# Altium footprint library 7499711421.PcbLib: 1 footprints
Each footprint in its own frame and in the unit in brackets; x right, y up, seen from the top. Pads: shape width x height; smd on the part's side, far side on the other; paste and mask are expansions set on the pad; w line width, h text height; cw(c..) or ccw(c..) is an arc to the next point about the centre after c.
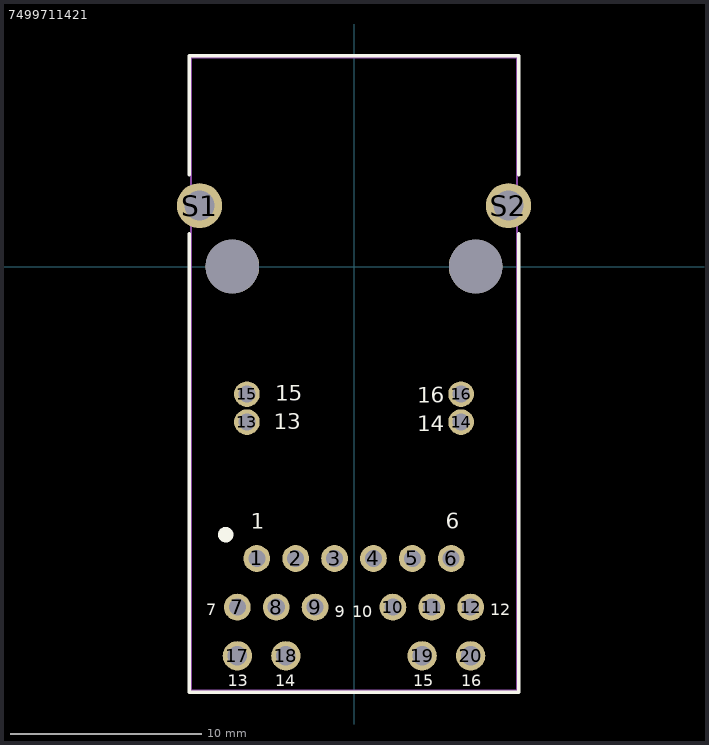
[diagram p0: the footprint, top view; thin cyan lines are the x and y axes]

## 7499711421 [mm]
pads (24):
  round 1.398 hole 0.89: 1(-5.075,-15.24) 2(-3.045,-15.24) 3(-1.015,-15.24) 4(1.015,-15.24) 5(3.045,-15.24) 6(5.075,-15.24) 7(-6.09,-17.78) 8(-4.06,-17.78) 9(-2.03,-17.78) 10(2.03,-17.78) 11(4.06,-17.78) 12(6.09,-17.78)
  round 1.335 hole 0.89: 13(-5.59,-8.12) 14(5.59,-8.12) 15(-5.59,-6.66) 16(5.59,-6.66)
  round 1.53 hole 1.02: 17(-6.09,-20.32) 18(-3.555,-20.32) 19(3.555,-20.32) 20(6.09,-20.32)
  round 2.355 hole 1.57: S1(-8.065,3.18) S2(8.065,3.18)
  round 2.8 hole 2.8 unplated: ""(-6.35,0) ""(6.35,0)
Top Overlay:
  circle w0.4: c-6.7,-14 r0.2
  lines w0.2: -8.6,1.7 -8.6,-22.22 8.6,-22.22 8.6,1.7 ; -8.6,4.8 -8.6,11 8.6,11 8.6,4.8
  text "14" at 3.3,-8.6 h0.81
  text "16" at 3.3,-7.1 h0.81
  text "13" at -4.2,-8.5 h0.81
  text "15" at -4.1,-7 h0.81
  text "15" at 3.1,-21.9 h0.61
  text "16" at 5.6,-21.9 h0.61
  text "13" at -6.6,-21.9 h0.61
  text "14" at -4.1,-21.9 h0.61
  text "12" at 7.1,-18.2 h0.61
  text "10" at -0.1,-18.3 h0.61
  text "9" at -1,-18.3 h0.61
  text "7" at -7.7,-18.2 h0.61
  text "1" at -5.4,-13.7 h0.81
  text "6" at 4.8,-13.7 h0.81
Mechanical 13:
  lines w0.1: -8.5,-22.12 8.5,-22.12 8.5,10.9 -8.5,10.9 -8.5,-22.12